# EAGLE library part PIC32MX170F256D-TQFP44 (library PIC32)
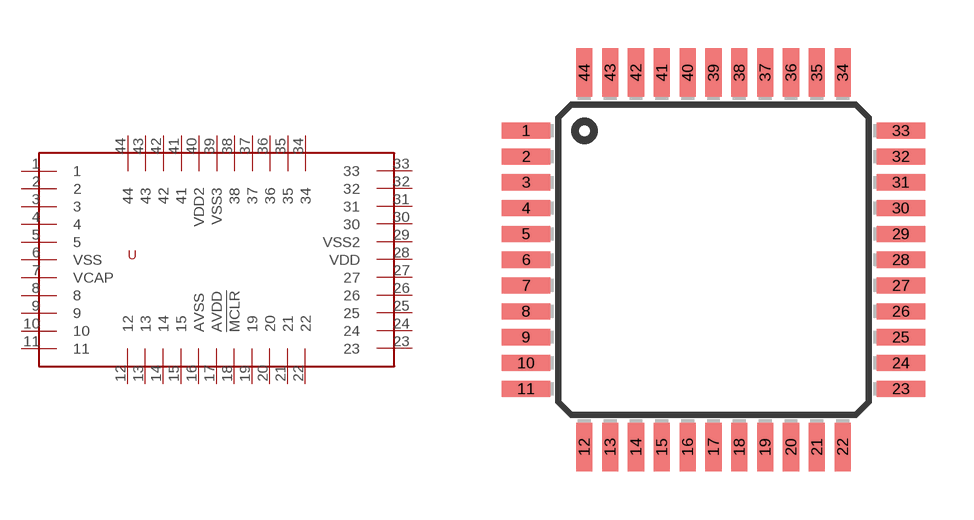
[diagram p3: symbol with the pads of TQFP44; footprint TQFP44]

Designator prefix -

## PIC32MX170F256D-TQFP44  [TQFP44]
1  1
2  2
3  3
4  4
5  5
6  VSS
7  VCAP
8  8
9  9
10  10
11  11
12  12
13  13
14  14
15  15
16  AVSS
17  AVDD
18  !MCLR
19  19
20  20
21  21
22  22
23  23
24  24
25  25
26  26
27  27
28  VDD
29  VSS2
30  30
31  31
32  32
33  33
34  34
35  35
36  36
37  37
38  38
39  VSS3
40  VDD2
41  41
42  42
43  43
44  44

## Footprint TQFP44 (pad centres in mm)
Thin Quad Flat Pack package type TQ
smd 1.5 x 0.5: 1 -5.8,4; 2 -5.8,3.2; 3 -5.8,2.4; 4 -5.8,1.6; 5 -5.8,0.8; 6 -5.8,0; 7 -5.8,-0.8; 8 -5.8,-1.6; 9 -5.8,-2.4; 10 -5.8,-3.2; 11 -5.8,-4; 23 5.8,-4; 24 5.8,-3.2; 25 5.8,-2.4; 26 5.8,-1.6; 27 5.8,-0.8; 28 5.8,0; 29 5.8,0.8; 30 5.8,1.6; 31 5.8,2.4; 32 5.8,3.2; 33 5.8,4
smd 0.5 x 1.5: 12 -4,-5.8; 13 -3.2,-5.8; 14 -2.4,-5.8; 15 -1.6,-5.8; 16 -0.8,-5.8; 17 0,-5.8; 18 0.8,-5.8; 19 1.6,-5.8; 20 2.4,-5.8; 21 3.2,-5.8; 22 4,-5.8; 34 4,5.8; 35 3.2,5.8; 36 2.4,5.8; 37 1.6,5.8; 38 0.8,5.8; 39 0,5.8; 40 -0.8,5.8; 41 -1.6,5.8; 42 -2.4,5.8; 43 -3.2,5.8; 44 -4,5.8